# Altium schematic symbol library USB3131-30-0230-A_REVB.SchLib: 1 symbol
Pins are listed as number, name and electrical type; pins without a type are passive.

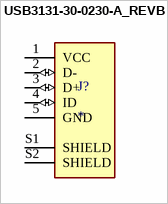
[diagram p0: symbol USB3131-30-0230-A_REVB]

## USB3131-30-0230-A_REVB
designator J?
USB - micro B USB 2.0 Receptacle Connector 5 Position Through Hole; MP: USB3131-30-0230-A_REVB; Availability: Unavailable; Value: *; Package: None; Price: None
footprint GCT_USB3131-30-0230-A_REVB
pins: 1 VCC (power), 2 D- (io), 3 D+ (io), 4 ID (io), 5 GND (power), S1 SHIELD, S2 SHIELD